# Altium schematic symbol library op-amp_0.Schlib: 1 symbol
Pins are listed as number, name and electrical type; pins without a type are passive.

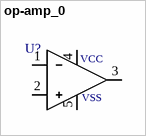
[diagram p0: symbol op-amp_0]

## op-amp_0
designator U?  (value not drawn)
Op Amp, Generic
pins: 1, 2, 3, 4, 5
text: VCC; VSS